# EAGLE library part SN75ALS057 (library dec-con)
Qbus-likeTransceiver
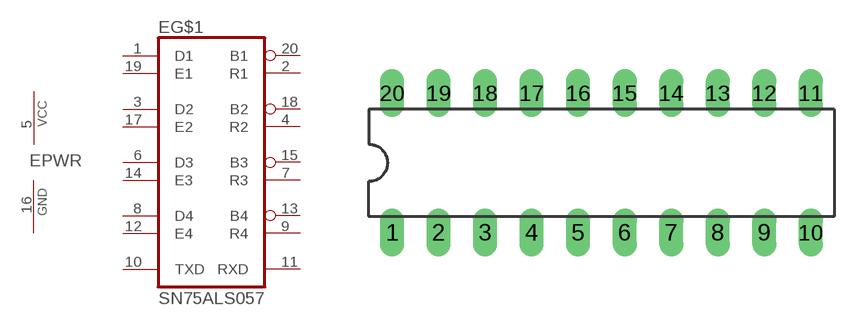
[diagram p15: symbol with the pads of DIL20; footprint DIL20]

Designator prefix E; gates PWR=PWRN G$1=75057

## SN75ALS057  [DIL20]
1  G$1:D1  in
2  G$1:R1  out
3  G$1:D2  in
4  G$1:R2  out
5  PWR:VCC  pwr
6  G$1:D3  in
7  G$1:R3  out
8  G$1:D4  in
9  G$1:R4  out
10  G$1:TXD  in
11  G$1:RXD  in
12  G$1:E4  in
13  G$1:B4
14  G$1:E3  in
15  G$1:B3
16  PWR:GND  pwr
17  G$1:E2  in
18  G$1:B2
19  G$1:E1  in
20  G$1:B1

## Footprint DIL20 (pad centres in mm)
Dual In Line Package
drill 0.813 long: 1 -8.89,-3.81; 2 -6.35,-3.81; 3 -3.81,-3.81; 4 -1.27,-3.81; 5 1.27,-3.81; 6 3.81,-3.81; 7 6.35,-3.81; 8 8.89,-3.81; 9 11.43,-3.81; 10 13.97,-3.81; 11 13.97,3.81; 12 11.43,3.81; 13 8.89,3.81; 14 6.35,3.81; 15 3.81,3.81; 16 1.27,3.81; 17 -1.27,3.81; 18 -3.81,3.81; 19 -6.35,3.81; 20 -8.89,3.81